# Altium footprint library 简易牛角座.PcbLib: 22 footprints (part 1 of 2)
Each footprint in its own frame and in the unit in brackets; x right, y up, seen from the top. Pads: shape width x height; smd on the part's side, far side on the other; paste and mask are expansions set on the pad; w line width, h text height; cw(c..) or ccw(c..) is an arc to the next point about the centre after c.
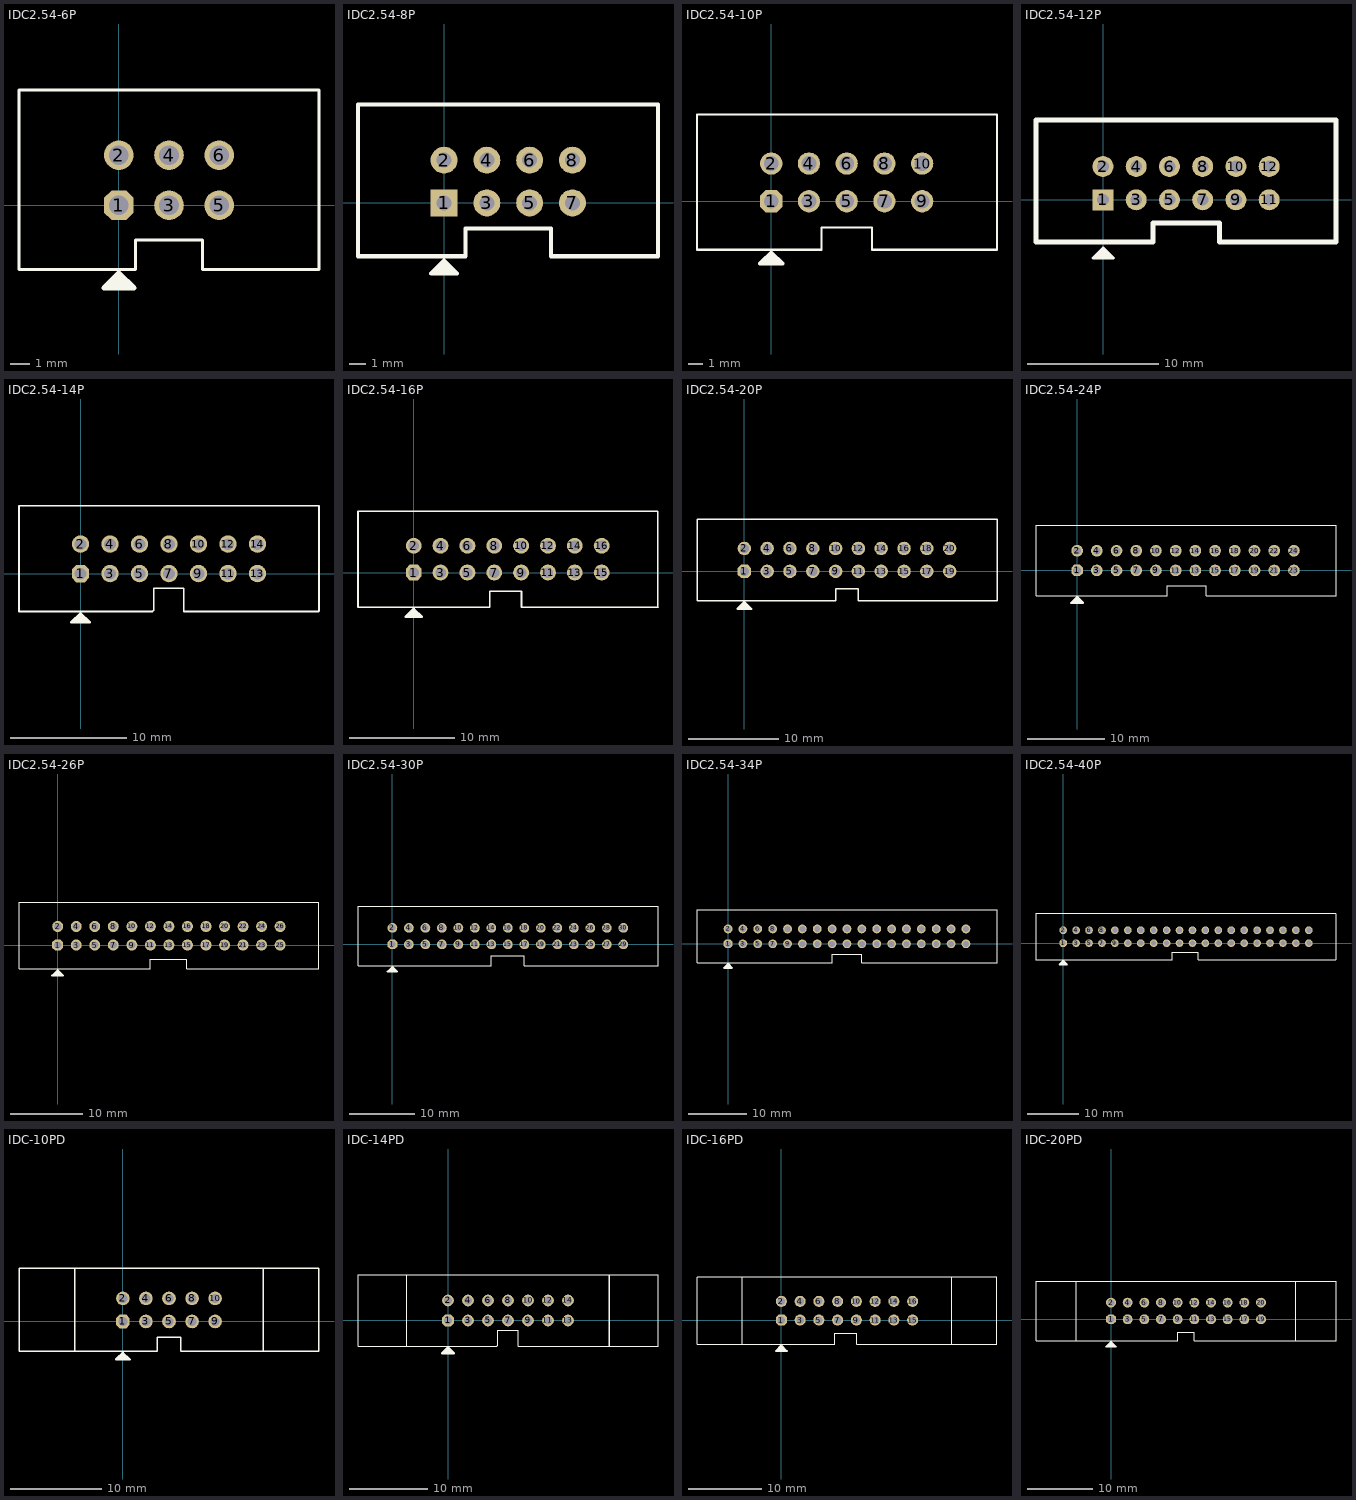
[diagram p0: the footprints below, top view; thin cyan lines are the x and y axes]

## IDC2.54-6P [mm]
pads (6):
  oct 1.5x1.5 hole 1: 1(0,0)
  round 1.5 hole 1: 2(0,2.54) 3(2.54,0) 4(2.54,2.54) 5(5.08,0) 6(5.08,2.54)
Top Overlay:
  lines w0.15: 10.14,-3.26 4.24,-3.26 4.24,-1.76 0.84,-1.76 0.84,-3.26 -5.06,-3.26 -5.06,5.84 10.14,5.84 10.14,-3.23
  lines w0.254: -0.508,-4.191 -0.254,-3.937 ; -0.381,-3.81 0.127,-3.81 0.508,-4.191 ; 0,-3.683 0,-3.429 ; -0.254,-3.937 0,-4.191 0.508,-4.191 ; -0.254,-3.937 0.254,-3.937 0.508,-4.191 ; 0,-3.429 -0.762,-4.191 0.508,-4.191 ; 0,-3.429 0.762,-4.191 0.508,-4.191
Bottom Overlay:
  lines w0.6: -1.041,1.27 6.325,1.27 ; 1.27,-1.016 1.27,3.353 ; 3.81,-1.016 3.81,3.353
3D body "IDC-6.STEP": height 8.92, standoff -3.48, extent -5.07,-2.947 10.15,5.903

## IDC2.54-8P [mm] "8P简易牛角座"
pads (8):
  rect 1.6x1.6 hole 0.9: 1(0,0)
  round 1.6 hole 0.9: 2(0,2.54) 3(2.54,0) 4(2.54,2.54) 5(5.08,0) 6(5.08,2.54) 7(7.62,0) 8(7.62,2.54)
Top Overlay:
  lines w0.254: -0.508,-4.191 -0.254,-3.937 ; -0.381,-3.81 0.127,-3.81 0.508,-4.191 ; 0,-3.683 0,-3.429 ; -0.254,-3.937 0.254,-3.937 0.508,-4.191 ; -0.254,-3.937 0,-4.191 0.508,-4.191 ; 0,-3.429 0.762,-4.191 0.508,-4.191 ; 0,-3.429 -0.762,-4.191 0.508,-4.191 ; -5.11,-3.175 -5.11,5.842 12.7,5.842 12.7,-3.175 6.35,-3.175 6.35,-1.524 1.27,-1.524 1.27,-3.175 -5.11,-3.175
Bottom Overlay:
  lines w0.6: -1.041,1.27 8.89,1.27 ; 1.27,-1.016 1.27,3.353 ; 3.81,-1.016 3.81,3.353 ; 6.35,-1.016 6.35,3.353
3D body "IDC-8.STEP": height 9.05, standoff -3.1, extent -5.08,-3.205 12.7,5.995

## IDC2.54-10P [mm]
pads (10):
  oct 1.5x1.5 hole 1: 1(0,0)
  round 1.5 hole 1: 2(0,2.54) 3(2.54,0) 4(2.54,2.54) 5(5.08,0) 6(5.08,2.54) 7(7.62,0) 8(7.62,2.54) 9(10.16,0) 10(10.16,2.54)
Top Overlay:
  lines w0.15: -5,-3.26 -5,5.84 15.2,5.84 15.2,-3.26 6.782,-3.26 6.782,-1.76 3.378,-1.76 3.378,-3.26 -5,-3.26
  lines w0.254: -0.508,-4.191 -0.254,-3.937 ; -0.381,-3.81 0.127,-3.81 0.508,-4.191 ; 0,-3.683 0,-3.429 ; -0.254,-3.937 0,-4.191 0.508,-4.191 ; -0.254,-3.937 0.254,-3.937 0.508,-4.191 ; 0,-3.429 -0.762,-4.191 0.508,-4.191 ; 0,-3.429 0.762,-4.191 0.508,-4.191
Bottom Overlay:
  lines w0.6: -1.041,1.27 11,1.27 ; 1.27,-1.016 1.27,3.353 ; 3.81,-1.016 3.81,3.353 ; 6.35,-1.016 6.35,3.353 ; 8.89,-1.016 8.89,3.353
3D body "IDC10.step": height 9.13, standoff -3.27, extent -5.07,-2.98 15.23,5.87

## IDC2.54-12P [mm] "12P简易牛角座"
pads (12):
  rect 1.6x1.6 hole 0.9: 1(-0.025,0)
  round 1.6 hole 0.9: 2(-0.025,2.54) 3(2.515,0) 4(2.515,2.54) 5(5.055,0) 6(5.055,2.54) 7(7.595,0) 8(7.595,2.54) 9(10.135,0) 10(10.135,2.54) 11(12.675,0) 12(12.675,2.54)
Top Overlay:
  lines w0.254: -0.508,-4.445 -0.254,-4.191 ; -0.381,-4.064 0.127,-4.064 0.508,-4.445 ; 0,-3.937 0,-3.683 ; -0.254,-4.191 0,-4.445 0.508,-4.445 ; -0.254,-4.191 0.254,-4.191 0.508,-4.445 ; 0,-3.683 -0.762,-4.445 0.508,-4.445 ; 0,-3.683 0.762,-4.445 0.508,-4.445
  lines w0.381: -5.135,-3.23 -5.135,6.096 17.78,6.096 17.78,-3.23 8.89,-3.23 8.89,-1.778 3.81,-1.778 3.81,-3.23 -5.135,-3.23
Bottom Overlay:
  lines w0.6: -1.067,1.27 13.515,1.27 ; 1.245,-1.016 1.245,3.353 ; 3.785,-1.016 3.785,3.353 ; 6.325,-1.016 6.325,3.353 ; 8.865,-1.016 8.865,3.353 ; 11.405,-1.016 11.405,3.353
3D body "IDC-12.STEP": height 8.92, standoff -3.48, extent -5.197,-2.881 17.643,5.969

## IDC2.54-14P [mm]
pads (14):
  oct 1.5x1.5 hole 1: 1(0,0)
  round 1.5 hole 1: 2(0,2.54) 3(2.54,0) 4(2.54,2.54) 5(5.08,0) 6(5.08,2.54) 7(7.62,0) 8(7.62,2.54) 9(10.16,0) 10(10.16,2.54) 11(12.7,0) 12(12.7,2.54) 13(15.24,0) 14(15.24,2.54)
Top Overlay:
  lines w0.15: -5.3,-3.26 -5.3,5.84 20.54,5.84 20.54,-3.22 20.5,-3.26 8.9,-3.26 8.9,-1.27 6.3,-1.27 6.3,-3.16 6.2,-3.26 -5.3,-3.26
  lines w0.254: -0.508,-4.191 -0.254,-3.937 ; -0.381,-3.81 0.127,-3.81 0.508,-4.191 ; 0,-3.683 0,-3.429 ; -0.254,-3.937 0,-4.191 0.508,-4.191 ; -0.254,-3.937 0.254,-3.937 0.508,-4.191 ; 0,-3.429 0.762,-4.191 0.508,-4.191 ; 0,-3.429 -0.762,-4.191 0.508,-4.191
Bottom Overlay:
  lines w0.6: -1.041,1.27 16,1.27 ; 1.27,-1.016 1.27,3.353 ; 3.81,-1.016 3.81,3.353 ; 6.35,-1.016 6.35,3.353 ; 8.89,-1.016 8.89,3.353 ; 11.43,-1.016 11.43,3.353 ; 13.97,-1.016 13.97,3.353
3D body "IDC-14.STEP": height 8.92, standoff -3.48, extent -5.07,-2.98 20.31,5.87

## IDC2.54-16P [mm]
pads (16):
  oct 1.5x1.5 hole 1: 1(0,0)
  round 1.5 hole 1: 2(0,2.54) 3(2.54,0) 4(2.54,2.54) 5(5.08,0) 6(5.08,2.54) 7(7.62,0) 8(7.62,2.54) 9(10.16,0) 10(10.16,2.54) 11(12.7,0) 12(12.7,2.54) 13(15.24,0) 14(15.24,2.54) 15(17.78,0) 16(17.78,2.54)
Top Overlay:
  lines w0.15: 10.2,-1.96 10.2,-3.27 ; 23.1,-3.27 23.1,5.81 -5.27,5.81 -5.27,-3.27 7.2,-3.27 7.2,-1.76 8,-1.76 10.2,-1.76 ; 23.11,-3.27 12.7,-3.27 10.2,-3.27 ; 10.2,-3.27 10.2,-1.76 ; 10.2,-1.76 10.2,-1.76
  lines w0.254: -0.508,-4.191 -0.254,-3.937 ; -0.381,-3.81 0.127,-3.81 0.508,-4.191 ; 0,-3.683 0,-3.429 ; -0.254,-3.937 0.254,-3.937 0.508,-4.191 ; -0.254,-3.937 0,-4.191 0.508,-4.191 ; 0,-3.429 0.762,-4.191 0.508,-4.191 ; 0,-3.429 -0.762,-4.191 0.508,-4.191
Bottom Overlay:
  lines w0.6: -1.041,1.27 18.5,1.27 ; 1.27,-0.813 1.27,3.556 ; 3.81,-0.813 3.81,3.556 ; 6.35,-0.813 6.35,3.556 ; 8.89,-0.813 8.89,3.556 ; 11.43,-0.813 11.43,3.556 ; 13.97,-0.813 13.97,3.556 ; 16.51,-0.813 16.51,3.556
3D body "IDC16.step": height 9.13, standoff -3.27, extent -5.07,-2.98 22.85,5.87

## IDC2.54-20P [mm]
pads (20):
  oct 1.5x1.5 hole 1: 1(0,0)
  round 1.5 hole 1: 2(0,2.54) 3(2.54,0) 4(2.54,2.54) 5(5.08,0) 6(5.08,2.54) 7(7.62,0) 8(7.62,2.54) 9(10.16,0) 10(10.16,2.54) 11(12.7,0) 12(12.7,2.54) 13(15.24,0) 14(15.24,2.54) 15(17.78,0) 16(17.78,2.54) 17(20.32,0) 18(20.32,2.54) 19(22.86,0) 20(22.86,2.54)
Top Overlay:
  lines w0.15: -5.27,-3.27 10.2,-3.27 10.2,-1.96 12.7,-1.96 12.7,-3.27 28.13,-3.27 28.13,5.81 -5.27,5.81 -5.27,-3.27
  lines w0.254: -0.508,-4.191 -0.254,-3.937 ; -0.381,-3.81 0.127,-3.81 0.508,-4.191 ; 0,-3.683 0,-3.429 ; -0.254,-3.937 0.254,-3.937 0.508,-4.191 ; -0.254,-3.937 0,-4.191 0.508,-4.191 ; 0,-3.429 0.762,-4.191 0.508,-4.191 ; 0,-3.429 -0.762,-4.191 0.508,-4.191
Bottom Overlay:
  lines w0.6: -1.041,1.27 23.5,1.27 ; 1.27,-0.813 1.27,3.556 ; 3.81,-0.813 3.81,3.556 ; 6.35,-0.813 6.35,3.556 ; 8.89,-0.813 8.89,3.556 ; 11.43,-0.813 11.43,3.556 ; 13.97,-0.813 13.97,3.556 ; 16.51,-0.813 16.51,3.556 ; 19.05,-0.813 19.05,3.556 ; 21.59,-0.813 21.59,3.556
3D body "IDC 20.step": height 9.13, standoff -3.27, extent -5.07,-2.98 27.93,5.87

## IDC2.54-24P [mm]
pads (24):
  oct 1.5x1.5 hole 1: 1(0,0)
  round 1.5 hole 1: 2(0,2.54) 3(2.54,0) 4(2.54,2.54) 5(5.08,0) 6(5.08,2.54) 7(7.62,0) 8(7.62,2.54) 9(10.16,0) 10(10.16,2.54) 11(12.7,0) 12(12.7,2.54) 13(15.24,0) 14(15.24,2.54) 15(17.78,0) 16(17.78,2.54) 17(20.32,0) 18(20.32,2.54) 19(22.86,0) 20(22.86,2.54) 21(25.4,0) 22(25.4,2.54) 23(27.94,0) 24(27.94,2.54)
Top Overlay:
  lines w0.15: 11.623,-3.26 10.26,-3.26 -5.3,-3.26 -5.3,5.84 33.36,5.84 33.36,-3.26 16.63,-3.26 16.63,-1.967 11.63,-1.967 11.63,-3.267
  lines w0.254: -0.508,-4.191 -0.254,-3.937 ; -0.381,-3.81 0.127,-3.81 0.508,-4.191 ; 0,-3.683 0,-3.429 ; -0.254,-3.937 0,-4.191 0.508,-4.191 ; -0.254,-3.937 0.254,-3.937 0.508,-4.191 ; 0,-3.429 -0.762,-4.191 0.508,-4.191 ; 0,-3.429 0.762,-4.191 0.508,-4.191
Bottom Overlay:
  lines w0.6: -1.041,1.27 28.5,1.27 ; 1.27,-0.813 1.27,3.556 ; 3.81,-0.813 3.81,3.556 ; 6.35,-0.813 6.35,3.556 ; 8.89,-0.813 8.89,3.556 ; 11.43,-0.813 11.43,3.556 ; 13.97,-0.813 13.97,3.556 ; 16.51,-0.813 16.51,3.556 ; 19.05,-0.813 19.05,3.556 ; 21.59,-0.813 21.59,3.556 ; 24.13,-0.813 24.13,3.556 ; 26.67,-0.813 26.67,3.556
3D body "IDC-24.STEP": height 8.92, standoff -3.48, extent -5.07,-2.98 33.01,5.87

## IDC2.54-26P [mm]
pads (26):
  oct 1.5x1.5 hole 1: 1(0,0)
  round 1.5 hole 1: 2(0,2.54) 3(2.54,0) 4(2.54,2.54) 5(5.08,0) 6(5.08,2.54) 7(7.62,0) 8(7.62,2.54) 9(10.16,0) 10(10.16,2.54) 11(12.7,0) 12(12.7,2.54) 13(15.24,0) 14(15.24,2.54) 15(17.78,0) 16(17.78,2.54) 17(20.32,0) 18(20.32,2.54) 19(22.86,0) 20(22.86,2.54) 21(25.4,0) 22(25.4,2.54) 23(27.94,0) 24(27.94,2.54) 25(30.48,0) 26(30.48,2.54)
Top Overlay:
  lines w0.15: 12.649,-1.96 12.649,-3.251 12.64,-3.26 -5.3,-3.26 -5.3,5.84 35.8,5.84 35.8,-3.26 17.7,-3.26 ; 12.699,-1.96 17.649,-1.96 17.649,-3.26
  lines w0.254: -0.508,-4.191 -0.254,-3.937 ; -0.381,-3.81 0.127,-3.81 0.508,-4.191 ; 0,-3.683 0,-3.429 ; -0.254,-3.937 0,-4.191 0.508,-4.191 ; -0.254,-3.937 0.254,-3.937 0.508,-4.191 ; 0,-3.429 -0.762,-4.191 0.508,-4.191 ; 0,-3.429 0.762,-4.191 0.508,-4.191
Bottom Overlay:
  lines w0.6: -1.041,1.27 31,1.27 ; 1.27,-0.813 1.27,3.556 ; 3.81,-0.813 3.81,3.556 ; 6.35,-0.813 6.35,3.556 ; 8.89,-0.813 8.89,3.556 ; 11.43,-0.813 11.43,3.556 ; 13.97,-0.813 13.97,3.556 ; 16.51,-0.813 16.51,3.556 ; 19.05,-0.813 19.05,3.556 ; 21.59,-0.813 21.59,3.556 ; 24.13,-0.813 24.13,3.556 ; 26.67,-0.813 26.67,3.556 ; 29.21,-0.813 29.21,3.556
3D body "IDC-26.STEP": height 8.92, standoff -3.48, extent -5.07,-3.107 35.55,5.743

## IDC2.54-30P [mm]
pads (30):
  oct 1.5x1.5 hole 1: 1(0,0)
  round 1.5 hole 1: 2(0,2.54) 3(2.54,0) 4(2.54,2.54) 5(5.08,0) 6(5.08,2.54) 7(7.62,0) 8(7.62,2.54) 9(10.16,0) 10(10.16,2.54) 11(12.7,0) 12(12.7,2.54) 13(15.24,0) 14(15.24,2.54) 15(17.78,0) 16(17.78,2.54) 17(20.32,0) 18(20.32,2.54) 19(22.86,0) 20(22.86,2.54) 21(25.4,0) 22(25.4,2.54) 23(27.94,0) 24(27.94,2.54) 25(30.48,0) 26(30.48,2.54) 27(33.02,0) 28(33.02,2.54) 29(35.56,0) 30(35.56,2.54)
Top Overlay:
  lines w0.15: -5.3,-3.26 15.22,-3.26 15.22,-1.76 20.32,-1.76 20.32,-3.26 40.9,-3.26 40.9,5.84 -5.3,5.84 -5.3,-3.26
  lines w0.254: -0.508,-4.191 -0.254,-3.937 ; -0.381,-3.81 0.127,-3.81 0.508,-4.191 ; 0,-3.683 0,-3.429 ; -0.254,-3.937 0.254,-3.937 0.508,-4.191 ; -0.254,-3.937 0,-4.191 0.508,-4.191 ; 0,-3.429 0.762,-4.191 0.508,-4.191 ; 0,-3.429 -0.762,-4.191 0.508,-4.191
Bottom Overlay:
  lines w0.6: -1.041,1.27 36,1.27 ; 1.27,-0.813 1.27,3.556 ; 3.81,-0.813 3.81,3.556 ; 6.35,-0.813 6.35,3.556 ; 8.89,-0.813 8.89,3.556 ; 11.43,-0.813 11.43,3.556 ; 13.97,-0.813 13.97,3.556 ; 16.51,-0.813 16.51,3.556 ; 19.05,-0.813 19.05,3.556 ; 21.59,-0.813 21.59,3.556 ; 24.13,-0.813 24.13,3.556 ; 26.67,-0.813 26.67,3.556 ; 29.21,-0.813 29.21,3.556 ; 31.75,-0.813 31.75,3.556 ; 34.29,-0.813 34.29,3.556
3D body "IDC-30.STEP": height 8.92, standoff -3.48, extent -5.08,-2.901 40.62,5.949

## IDC2.54-34P [mm]
pads (34):
  oct 1.5x1.5 hole 1: 1(0,0)
  round 1.5 hole 1: 2(0,2.54) 3(2.54,0) 4(2.54,2.54) 5(5.08,0) 6(5.08,2.54) 7(7.62,0) 8(7.62,2.54) 9(10.16,0) 10(10.16,2.54) 11(12.7,0) 12(12.7,2.54) 13(15.24,0) 14(15.24,2.54) 15(17.78,0) 16(17.78,2.54) 17(20.32,0) 18(20.32,2.54) 19(22.86,0) 20(22.86,2.54) 21(25.4,0) 22(25.4,2.54) 23(27.94,0) 24(27.94,2.54) 25(30.48,0) 26(30.48,2.54) 27(33.02,0) 28(33.02,2.54) 29(35.56,0) 30(35.56,2.54) 31(38.1,0) 32(38.1,2.54) 33(40.64,0) 34(40.64,2.54)
Top Overlay:
  lines w0.15: -5.3,-3.26 -5.3,5.84 45.94,5.84 45.94,-3.26 22.9,-3.26 22.88,-3.24 22.88,-1.74 17.78,-1.74 17.78,-3.24 17.76,-3.26 -5.3,-3.26
  lines w0.254: -0.508,-4.191 -0.254,-3.937 ; -0.381,-3.81 0.127,-3.81 0.508,-4.191 ; 0,-3.683 0,-3.429 ; -0.254,-3.937 0,-4.191 0.508,-4.191 ; -0.254,-3.937 0.254,-3.937 0.508,-4.191 ; 0,-3.429 -0.762,-4.191 0.508,-4.191 ; 0,-3.429 0.762,-4.191 0.508,-4.191
Bottom Overlay:
  lines w0.6: -1.041,1.27 41.47,1.27 ; 1.27,-0.813 1.27,3.556 ; 3.81,-0.813 3.81,3.556 ; 6.35,-0.813 6.35,3.556 ; 8.89,-0.813 8.89,3.556 ; 11.43,-0.813 11.43,3.556 ; 13.97,-0.813 13.97,3.556 ; 16.51,-0.813 16.51,3.556 ; 19.05,-0.813 19.05,3.556 ; 21.59,-0.813 21.59,3.556 ; 24.13,-0.813 24.13,3.556 ; 26.67,-0.813 26.67,3.556 ; 29.21,-0.813 29.21,3.556 ; 31.75,-0.813 31.75,3.556 ; 34.29,-0.813 34.29,3.556 ; 36.83,-0.813 36.83,3.556 ; 39.37,-0.813 39.37,3.556
3D body "idc34.step": height 9.13, standoff -3.27, extent -5.07,-2.98 45.71,5.87

## IDC2.54-40P [mm]
pads (40):
  oct 1.5x1.5 hole 1: 1(0,0)
  round 1.5 hole 1: 2(0,2.54) 3(2.54,0) 4(2.54,2.54) 5(5.08,0) 6(5.08,2.54) 7(7.62,0) 8(7.62,2.54) 9(10.16,0) 10(10.16,2.54) 11(12.7,0) 12(12.7,2.54) 13(15.24,0) 14(15.24,2.54) 15(17.78,0) 16(17.78,2.54) 17(20.32,0) 18(20.32,2.54) 19(22.86,0) 20(22.86,2.54) 21(25.4,0) 22(25.4,2.54) 23(27.94,0) 24(27.94,2.54) 25(30.48,0) 26(30.48,2.54) 27(33.02,0) 28(33.02,2.54) 29(35.56,0) 30(35.56,2.54) 31(38.1,0) 32(38.1,2.54) 33(40.64,0) 34(40.64,2.54) 35(43.18,0) 36(43.18,2.54) 37(45.72,0) 38(45.72,2.54) 39(48.26,0) 40(48.26,2.54)
Top Overlay:
  lines w0.15: -5.34,-3.26 21.438,-3.26 ; -5.34,5.84 53.56,5.84 ; -5.3,-3.3 -5.3,5.8 ; 21.463,-3.26 21.463,-1.76 26.563,-1.76 26.563,-3.26 ; 26.568,-3.26 53.56,-3.26 ; 53.6,-3.3 53.6,5.8
  lines w0.254: -0.508,-4.191 -0.254,-3.937 ; -0.381,-3.81 0.127,-3.81 0.508,-4.191 ; 0,-3.683 0,-3.429 ; -0.254,-3.937 0.254,-3.937 0.508,-4.191 ; -0.254,-3.937 0,-4.191 0.508,-4.191 ; 0,-3.429 0.762,-4.191 0.508,-4.191 ; 0,-3.429 -0.762,-4.191 0.508,-4.191
Bottom Overlay:
  lines w0.6: -1.041,1.27 48.62,1.27 ; 1.27,-0.813 1.27,3.556 ; 3.81,-0.813 3.81,3.556 ; 6.35,-0.813 6.35,3.556 ; 8.89,-0.813 8.89,3.556 ; 11.43,-0.813 11.43,3.556 ; 13.97,-0.813 13.97,3.556 ; 16.51,-0.813 16.51,3.556 ; 19.05,-0.813 19.05,3.556 ; 21.59,-0.813 21.59,3.556 ; 24.13,-0.813 24.13,3.556 ; 26.67,-0.813 26.67,3.556 ; 29.21,-0.813 29.21,3.556 ; 31.75,-0.813 31.75,3.556 ; 34.29,-0.813 34.29,3.556 ; 36.83,-0.813 36.83,3.556 ; 39.37,-0.813 39.37,3.556 ; 41.91,-0.813 41.91,3.556 ; 44.45,-0.813 44.45,3.556 ; 46.99,-0.838 46.99,3.531
3D body "idc40.step": height 9.13, standoff -3.27, extent -5.1,-3.05 53.3,5.8

## IDC-10PD [mm]
pads (10):
  oct 1.5x1.5 hole 1: 1(0,0)
  round 1.5 hole 1: 2(0,2.54) 3(2.54,0) 4(2.54,2.54) 5(5.08,0) 6(5.08,2.54) 7(7.62,0) 8(7.62,2.54) 9(10.16,0) 10(10.16,2.54)
Top Overlay:
  lines w0.15: -5.3,-3.26 -5.3,5.84 ; -5.004,-3.26 -11.43,-3.26 -11.43,5.84 -4.978,5.84 ; -5,-3.26 3.8,-3.26 3.8,-1.76 6.4,-1.76 6.4,-3.26 15.2,-3.26 ; -5,5.84 15.2,5.84 ; 15.138,5.84 21.59,5.84 21.59,-3.26 15.164,-3.26 ; 15.46,-3.26 15.46,5.84
  lines w0.254: -0.508,-4.191 -0.254,-3.937 ; -0.381,-3.81 0.127,-3.81 0.508,-4.191 ; 0,-3.683 0,-3.429 ; -0.254,-3.937 0.254,-3.937 0.508,-4.191 ; -0.254,-3.937 0,-4.191 0.508,-4.191 ; 0,-3.429 0.762,-4.191 0.508,-4.191 ; 0,-3.429 -0.762,-4.191 0.508,-4.191
Bottom Overlay:
  lines w0.6: -1.041,1.27 11,1.27 ; 1.27,-1.016 1.27,3.353 ; 3.81,-1.016 3.81,3.353 ; 6.35,-1.016 6.35,3.353 ; 8.89,-1.016 8.89,3.353

## IDC-14PD [mm]
pads (14):
  oct 1.5x1.5 hole 1: 1(0,0)
  round 1.5 hole 1: 2(0,2.54) 3(2.54,0) 4(2.54,2.54) 5(5.08,0) 6(5.08,2.54) 7(7.62,0) 8(7.62,2.54) 9(10.16,0) 10(10.16,2.54) 11(12.7,0) 12(12.7,2.54) 13(15.24,0) 14(15.24,2.54)
Top Overlay:
  lines w0.15: -11.43,-3.27 -11.43,5.8 ; -11.43,-3.26 -4.978,-3.26 ; -11.43,5.84 -5.004,5.84 ; -6.096,-3.26 6.2,-3.26 6.3,-3.16 6.3,-1.27 8.9,-1.27 8.9,-3.26 20.5,-3.26 20.54,-3.22 20.54,5.84 -5.3,5.84 ; -5.27,-3.27 -5.27,5.83 ; 20.218,-3.26 26.67,-3.26 ; 20.244,5.84 26.67,5.84 ; 20.51,-3.27 20.51,5.81 ; 26.67,-3.27 26.67,5.81
  lines w0.254: -0.508,-4.191 -0.254,-3.937 ; -0.381,-3.81 0.127,-3.81 0.508,-4.191 ; 0,-3.683 0,-3.429 ; -0.254,-3.937 0.254,-3.937 0.508,-4.191 ; -0.254,-3.937 0,-4.191 0.508,-4.191 ; 0,-3.429 0.762,-4.191 0.508,-4.191 ; 0,-3.429 -0.762,-4.191 0.508,-4.191
Bottom Overlay:
  lines w0.6: -1.041,1.27 16,1.27 ; 1.27,-1.016 1.27,3.353 ; 3.81,-1.016 3.81,3.353 ; 6.35,-1.016 6.35,3.353 ; 8.89,-1.016 8.89,3.353 ; 11.43,-1.016 11.43,3.353 ; 13.97,-1.016 13.97,3.353

## IDC-16PD [mm]
pads (16):
  oct 1.5x1.5 hole 1: 1(0,0)
  round 1.5 hole 1: 2(0,2.54) 3(2.54,0) 4(2.54,2.54) 5(5.08,0) 6(5.08,2.54) 7(7.62,0) 8(7.62,2.54) 9(10.16,0) 10(10.16,2.54) 11(12.7,0) 12(12.7,2.54) 13(15.24,0) 14(15.24,2.54) 15(17.78,0) 16(17.78,2.54)
Top Overlay:
  lines w0.15: -11.43,5.8 -11.43,-3.27 -4.978,-3.27 ; -11.43,5.84 -5.004,5.84 ; -5.27,5.81 -5.27,-3.27 ; -5.27,5.83 -5.27,-3.27 ; -5.27,5.84 23.1,5.84 ; 10.2,-1.96 10.2,-3.27 ; 22.758,-3.27 29.21,-3.27 29.21,5.8 ; 22.784,5.84 29.21,5.84 ; 23.05,-3.27 23.05,5.83 ; 23.1,-3.27 23.1,5.81 ; 23.11,-3.27 12.7,-3.27 10.2,-3.27 ; -5.27,-3.27 7.2,-3.27 7.2,-1.76 8,-1.76 10.2,-1.76 ; 10.2,-3.27 10.2,-1.76 ; 10.2,-1.76 10.2,-1.76
  lines w0.254: -0.508,-4.191 -0.254,-3.937 ; -0.381,-3.81 0.127,-3.81 0.508,-4.191 ; 0,-3.683 0,-3.429 ; -0.254,-3.937 0.254,-3.937 0.508,-4.191 ; -0.254,-3.937 0,-4.191 0.508,-4.191 ; 0,-3.429 0.762,-4.191 0.508,-4.191 ; 0,-3.429 -0.762,-4.191 0.508,-4.191
Bottom Overlay:
  lines w0.6: -1.041,1.27 18.5,1.27 ; 1.27,-0.813 1.27,3.556 ; 3.81,-0.813 3.81,3.556 ; 6.35,-0.813 6.35,3.556 ; 8.89,-0.813 8.89,3.556 ; 11.43,-0.813 11.43,3.556 ; 13.97,-0.813 13.97,3.556 ; 16.51,-0.813 16.51,3.556
3D body "IDC16PD.stp": height 26.16, standoff -2.8, extent -11.901,-3.344 29.501,5.8

## IDC-20PD [mm]
pads (20):
  oct 1.5x1.5 hole 1: 1(0,0)
  round 1.5 hole 1: 2(0,2.54) 3(2.54,0) 4(2.54,2.54) 5(5.08,0) 6(5.08,2.54) 7(7.62,0) 8(7.62,2.54) 9(10.16,0) 10(10.16,2.54) 11(12.7,0) 12(12.7,2.54) 13(15.24,0) 14(15.24,2.54) 15(17.78,0) 16(17.78,2.54) 17(20.32,0) 18(20.32,2.54) 19(22.86,0) 20(22.86,2.54)
Top Overlay:
  lines w0.15: -11.43,5.8 -11.43,-3.27 -4.978,-3.27 ; -11.43,5.81 -5.004,5.81 ; -5.3,-3.3 -5.3,5.8 ; 27.838,5.81 34.29,5.81 34.29,-3.26 ; 27.864,-3.27 34.29,-3.27 ; -5.27,-3.27 -5.27,5.81 28.13,5.81 28.13,-3.27 12.7,-3.27 12.7,-1.96 10.2,-1.96 10.2,-3.27 -5.27,-3.27
  lines w0.254: -0.508,-4.191 -0.254,-3.937 ; -0.381,-3.81 0.127,-3.81 0.508,-4.191 ; 0,-3.683 0,-3.429 ; -0.254,-3.937 0.254,-3.937 0.508,-4.191 ; -0.254,-3.937 0,-4.191 0.508,-4.191 ; 0,-3.429 0.762,-4.191 0.508,-4.191 ; 0,-3.429 -0.762,-4.191 0.508,-4.191
Bottom Overlay:
  lines w0.6: -1.041,1.27 23.5,1.27 ; 1.27,-0.813 1.27,3.556 ; 3.81,-0.813 3.81,3.556 ; 6.35,-0.813 6.35,3.556 ; 8.89,-0.813 8.89,3.556 ; 11.43,-0.813 11.43,3.556 ; 13.97,-0.813 13.97,3.556 ; 16.51,-0.813 16.51,3.556 ; 19.05,-0.813 19.05,3.556 ; 21.59,-0.813 21.59,3.556